# Altium footprint library PcbLib.PcbLib: 51 footprints (part 1 of 4)
Each footprint in its own frame and in the unit in brackets; x right, y up, seen from the top. Pads: shape width x height; smd on the part's side, far side on the other; paste and mask are expansions set on the pad; w line width, h text height; cw(c..) or ccw(c..) is an arc to the next point about the centre after c.
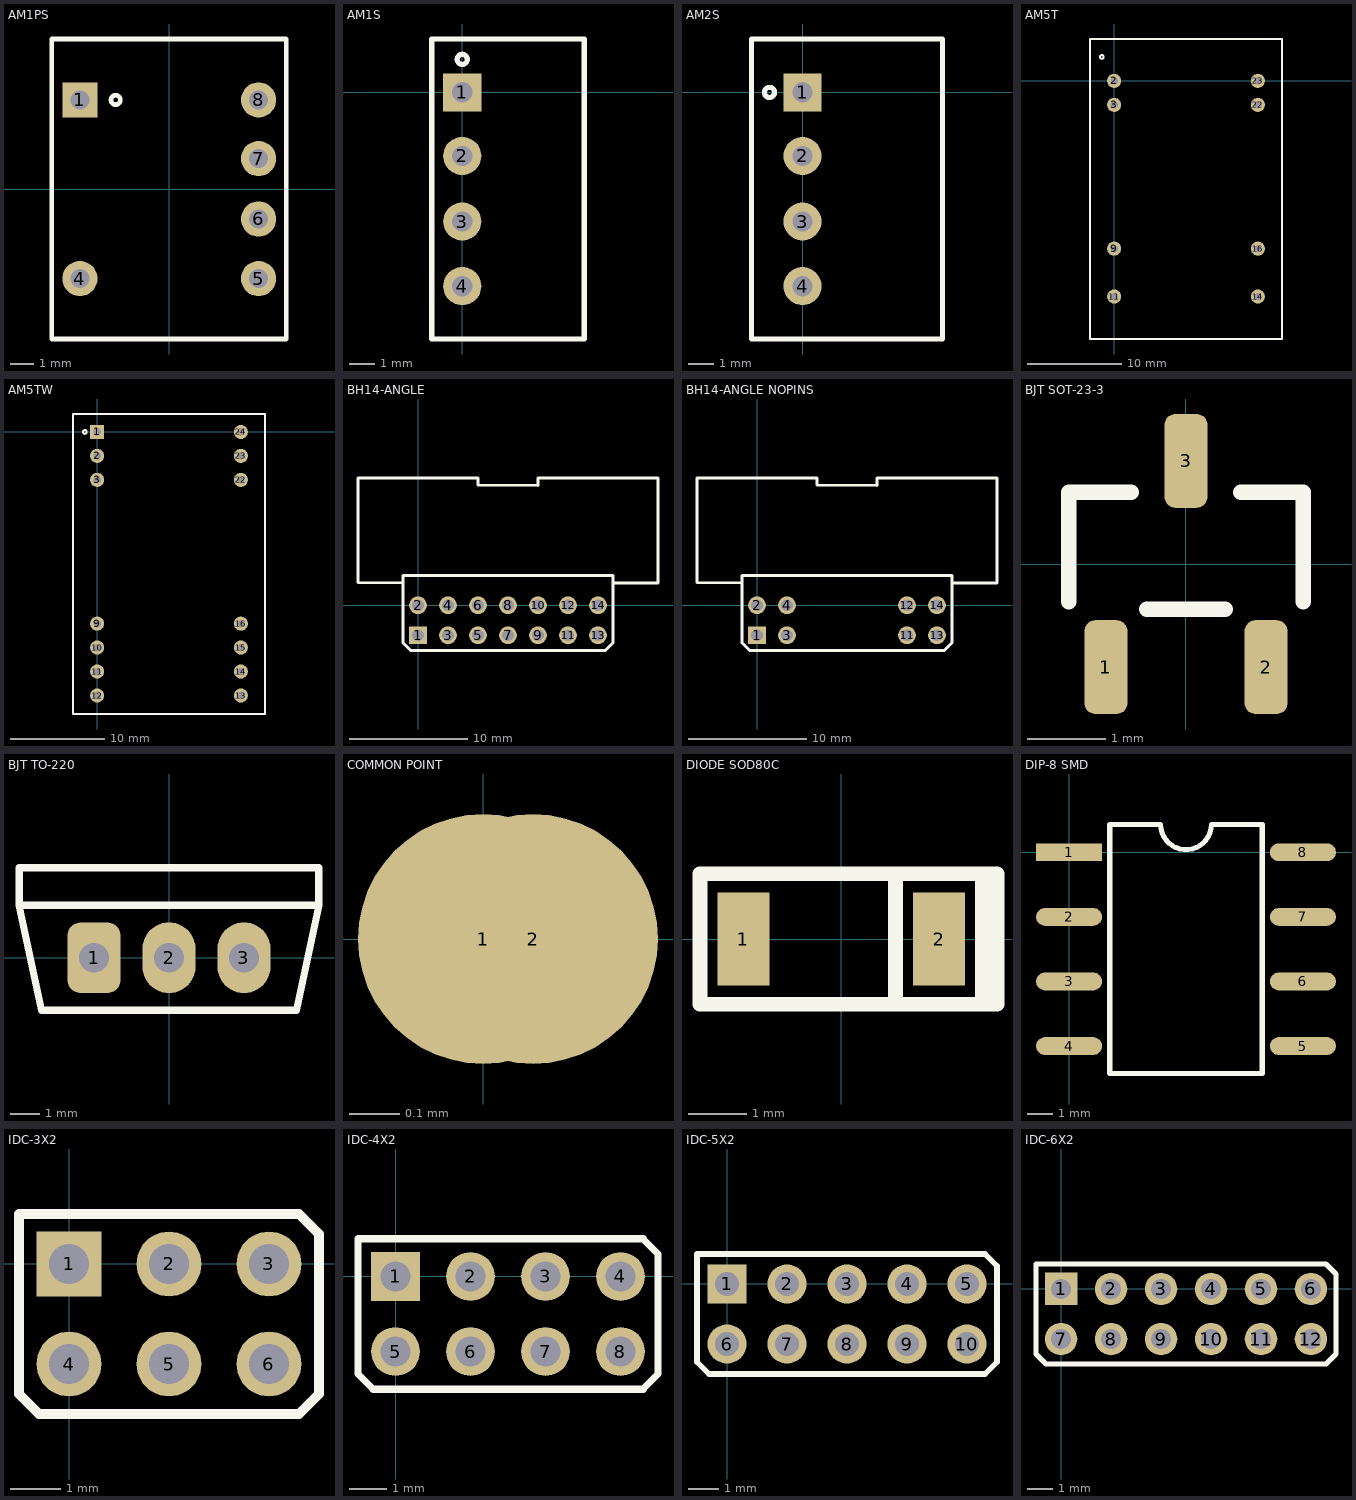
[diagram p0: the footprints below, top view; thin cyan lines are the x and y axes]

## AM1PS [mm]
pads (6):
  rect 1.5x1.5 hole 0.8: 1(-3.81,3.81)
  round 1.5 hole 0.8: 4(-3.81,-3.81) 5(3.81,-3.81) 6(3.81,-1.27) 7(3.81,1.31) 8(3.81,3.81)
Top Overlay:
  circle w0.2: c-2.286,3.81 r0.2
  lines w0.2: -5.01,-6.39 -5.01,6.41 4.99,6.41 4.99,-6.39 -5.01,-6.39
3D body: height 7.8, standoff 0, extent -5.01,-6.39 4.99,6.41

## AM1S [mm]
pads (4):
  rect 1.5x1.5 hole 0.8: 1(0,0)
  round 1.5 hole 0.8: 2(0,-2.5) 3(0,-5.08) 4(0,-7.62)
Top Overlay:
  circle w0.2: c0,1.3 r0.2
  lines w0.2: -1.2,-9.7 4.8,-9.7 4.8,2.1 -1.2,2.1 -1.2,-9.7
3D body: height 9.7, standoff 0, extent -1.2,-9.7 4.8,2.1

## AM2S [mm]
pads (4):
  rect 1.5x1.5 hole 0.8: 1(0,0)
  round 1.5 hole 0.8: 2(0,-2.5) 3(0,-5.08) 4(0,-7.62)
Top Overlay:
  circle w0.2: c-1.3,0 r0.2
  lines w0.2: -2,-9.7 -2,2.1 5.5,2.1 5.5,-9.7 -2,-9.7
3D body: height 9.7, standoff 0, extent -2,-9.7 5.5,2.1

## AM5T [mm]
pads (8):
  round 1.5 hole 0.8: 2(0,0) 3(0,-2.54) 9(0,-17.78) 11(0,-22.86) 14(15.24,-22.86) 16(15.24,-17.78) 22(15.24,-2.54) 23(15.24,0)
Top Overlay:
  circle w0.2: c-1.3,2.54 r0.2
  lines w0.2: -2.54,-27.36 -2.54,4.44 17.78,4.44 17.78,-27.36 -2.54,-27.36
3D body: height 10.16, standoff 0, extent -2.54,-27.36 17.78,4.44

## AM5TW [mm]
pads (14):
  rect 1.5x1.5 hole 0.8: 1(0,0)
  round 1.5 hole 0.8: 2(0,-2.54) 3(0,-5.08) 9(0,-20.32) 10(0,-22.86) 11(0,-25.4) 12(0,-27.94) 13(15.24,-27.94) 14(15.24,-25.4) 15(15.24,-22.86) 16(15.24,-20.32) 22(15.24,-5.08) 23(15.24,-2.54) 24(15.24,0)
Top Overlay:
  circle w0.2: c-1.3,0 r0.2
  lines w0.2: -2.54,-29.9 -2.54,1.9 17.78,1.9 17.78,-29.9 -2.54,-29.9
3D body: height 10.16, standoff 0, extent -2.54,-29.9 17.78,1.9

## BH14-ANGLE [mm]
pads (14):
  rect 1.5x1.5 hole 1: 1(0,-2.54)
  round 1.5 hole 1: 2(0,0) 3(2.54,-2.54) 4(2.54,0) 5(5.08,-2.54) 6(5.08,0) 7(7.62,-2.54) 8(7.62,0) 9(10.16,-2.54) 10(10.16,0) 11(12.7,-2.54) 12(12.7,0) 13(15.24,-2.54) 14(15.24,0)
Top Overlay:
  lines w0.254: -1.27,1.905 -5.08,1.905 -5.08,10.795 5.08,10.795 5.08,10.16 10.16,10.16 10.16,10.795 20.32,10.795 20.32,1.905 16.51,1.905 ; -1.27,-3.175 -0.635,-3.81 15.875,-3.81 16.51,-3.175 16.51,2.54 -1.27,2.54 -1.27,-3.175
3D body "IDC2.54-14MS.STEP": height 9.1, standoff -3.3, extent -5.105,-2.865 20.375,10.635

## BH14-ANGLE NOPINS [mm]
pads (8):
  rect 1.5x1.5 hole 1: 1(0,-2.54)
  round 1.5 hole 1: 2(0,0) 3(2.54,-2.54) 4(2.54,0) 11(12.7,-2.54) 12(12.7,0) 13(15.24,-2.54) 14(15.24,0)
Top Overlay:
  lines w0.254: -1.27,1.905 -5.08,1.905 -5.08,10.795 5.08,10.795 5.08,10.16 10.16,10.16 10.16,10.795 20.32,10.795 20.32,1.905 16.51,1.905 ; -1.27,-3.175 -1.27,2.54 16.51,2.54 16.51,-3.175 15.875,-3.81 -0.635,-3.81 -1.27,-3.175
3D body "IDC2.54-14MS.STEP": height 9.1, standoff -3.3, extent -5.105,-2.865 20.375,10.635

## BJT SOT-23-3 [mm]
pads (3):
  rrect50% 0.55x1.2 smd: 1(-1.025,-1.32) 2(1.025,-1.32) 3(0,1.32)
Top Overlay:
  lines w0.2: -1.5,-0.48 -1.5,0.92 -0.7,0.92 ; -0.5,-0.58 0.5,-0.58 ; 0.7,0.92 1.5,0.92 1.5,-0.48
3D body "BC847C.STEP": height 1.12, standoff 0, extent -1.52,-1.32 1.52,1.32

## BJT TO-220 [mm]
pads (3):
  rrect50% 1.8x2.4 hole 1: 1(-2.54,0)
  oval 1.8x2.4 hole 1: 2(0,0) 3(2.54,0)
Top Overlay:
  lines w0.254: -5.08,1.778 5.08,1.778 ; -5.08,1.778 -5.08,3.048 5.08,3.048 5.08,1.778 ; -5.08,1.778 -4.318,-1.778 4.318,-1.778 5.08,1.778

## COMMON POINT [mm]
pads (2):
  round 0.5 smd: 1(0,0) 2(0.1,0)

## DIODE SOD80C [mm]
pads (2):
  rect 0.9x1.6 smd: 1(-1.687,0) 2(1.688,0)
Top Overlay:
  lines w0.254: 0.938,-1.125 0.938,1.125 ; 2.438,-1.125 2.438,1.125 ; -2.437,-1.125 -2.437,1.125 2.688,1.125 2.688,-1.125 -2.437,-1.125 ; -2.437,-1.125 -2.437,-1.125
3D body: height 1.59, standoff 0, extent -1.813,-0.798 1.812,0.798

## DIP-8 SMD [mm]
pads (8):
  rect 2.6x0.7 smd: 1(0,0)
  oval 2.6x0.7 smd: 2(0,-2.54) 3(0,-5.08) 4(0,-7.62) 5(9.2,-7.62) 6(9.2,-5.08) 7(9.2,-2.54) 8(9.2,0)
Top Overlay:
  lines w0.2: 1.6,-8.7 1.6,1.1 3.6,1.1 ccw(c4.6,1.1) 5.6,1.1 7.6,1.1 7.6,-8.7 1.6,-8.7
3D body: height 4.85, standoff 0, extent 1.2,-8.7 8,1.1

## IDC-3X2 [mm]
pads (6):
  rect 1.3x1.3 hole 0.8: 1(0,0)
  round 1.3 hole 0.8: 2(2,0) 3(4,0) 4(0,-2) 5(2,-2) 6(4,-2)
Top Overlay:
  lines w0.2: -1,-2.6 -1,1 4.6,1 5,0.6 5,-2.6 4.6,-3 -0.6,-3 -1,-2.6

## IDC-4X2 [mm]
pads (8):
  rect 1.3x1.3 hole 0.8: 1(0,0)
  round 1.3 hole 0.8: 2(2,0) 3(4,0) 4(6,0) 5(0,-2) 6(2,-2) 7(4,-2) 8(6,-2)
Top Overlay:
  lines w0.2: -1,-2.6 -1,1 6.6,1 7,0.6 7,-2.6 6.6,-3 -0.6,-3 -1,-2.6

## IDC-5X2 [mm]
pads (10):
  rect 1.3x1.3 hole 0.8: 1(0,0)
  round 1.3 hole 0.8: 2(2,0) 3(4,0) 4(6,0) 5(8,0) 6(0,-2) 7(2,-2) 8(4,-2) 9(6,-2) 10(8,-2)
Top Overlay:
  lines w0.2: -1,-2.6 -1,1 8.6,1 9,0.6 9,-2.6 8.6,-3 -0.6,-3 -1,-2.6

## IDC-6X2 [mm]
pads (12):
  rect 1.3x1.3 hole 0.8: 1(0,0)
  round 1.3 hole 0.8: 2(2,0) 3(4,0) 4(6,0) 5(8,0) 6(10,0) 7(0,-2) 8(2,-2) 9(4,-2) 10(6,-2) 11(8,-2) 12(10,-2)
Top Overlay:
  lines w0.2: -1,-2.6 -0.6,-3 10.6,-3 11,-2.6 11,0.6 10.6,1 -1,1 -1,-2.6